# EAGLE library part IP4234CZ6 (library laforge)
NXP IP4234CZ6 - Single USB 2.0 ESD protection to IEC 61000-4-2 level 4
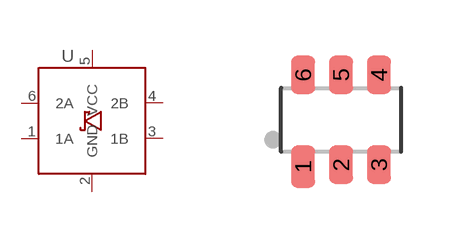
[diagram p35: symbol with the pads of TSOP-6; footprint TSOP-6]

Designator prefix U

## IP4234CZ6 (OC_DIGIKEY: 568-5869-1-ND)  [TSOP-6]
1  1A  pas
2  GND  pas
3  1B  pas
4  2B  pas
5  VCC  pas
6  2A  pas

## Footprint TSOP-6 (pad centres in mm)
TSOP-6 CAS E318G-02 ISSUE V (ON Semiconductor)
smd 0.6 x 1.05: 1 -0.95,-1.175
smd 0.6 x 0.95: 2 0,-1.125; 3 0.95,-1.125; 4 0.95,1.125; 5 0,1.125; 6 -0.95,1.125